# Altium footprint library miniMELF.PcbLib: 1 footprints
Each footprint in its own frame and in the unit in brackets; x right, y up, seen from the top. Pads: shape width x height; smd on the part's side, far side on the other; paste and mask are expansions set on the pad; w line width, h text height; cw(c..) or ccw(c..) is an arc to the next point about the centre after c.
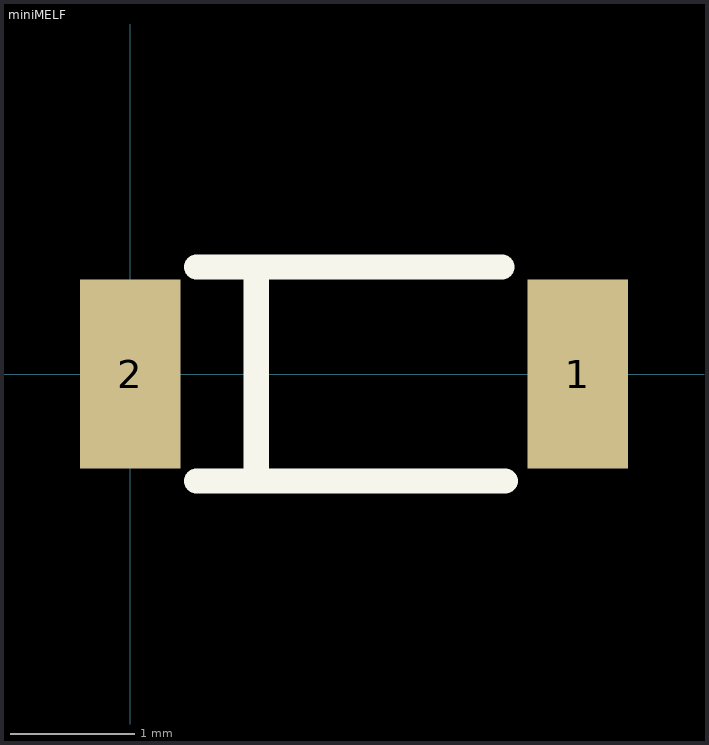
[diagram p0: the footprint, top view; thin cyan lines are the x and y axes]

## miniMELF [mil]
height 65
pads (2):
  rect 32x60 smd: 1(142,0) 2(0,0)
TopOverlay:
  lines w8: 21,-34 119,-34 ; 21,34 118,34 ; 40,-33 40,34
3D body: height 62.74, standoff 0, extent -4.52,-31.79 141.15,31.08
3D body: height 62.75, standoff 0, extent 35,-31.79 42.87,31.08